# Altium schematic symbol library Zener Diode.SchLib: 1 symbol
Pins are listed as number, name and electrical type; pins without a type are passive.

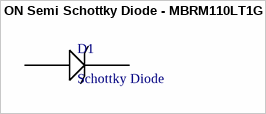
[diagram p0: symbol ON Semi Schottky Diode - MBRM110LT1G]

## ON Semi Schottky Diode - MBRM110LT1G
designator D1, comment Schottky Diode
footprint PCBComponent_1
pins: 1, 2